# Altium schematic symbol library LOGIC.SchLib: 28 symbols
Pins are listed as number, name and electrical type; pins without a type are passive.

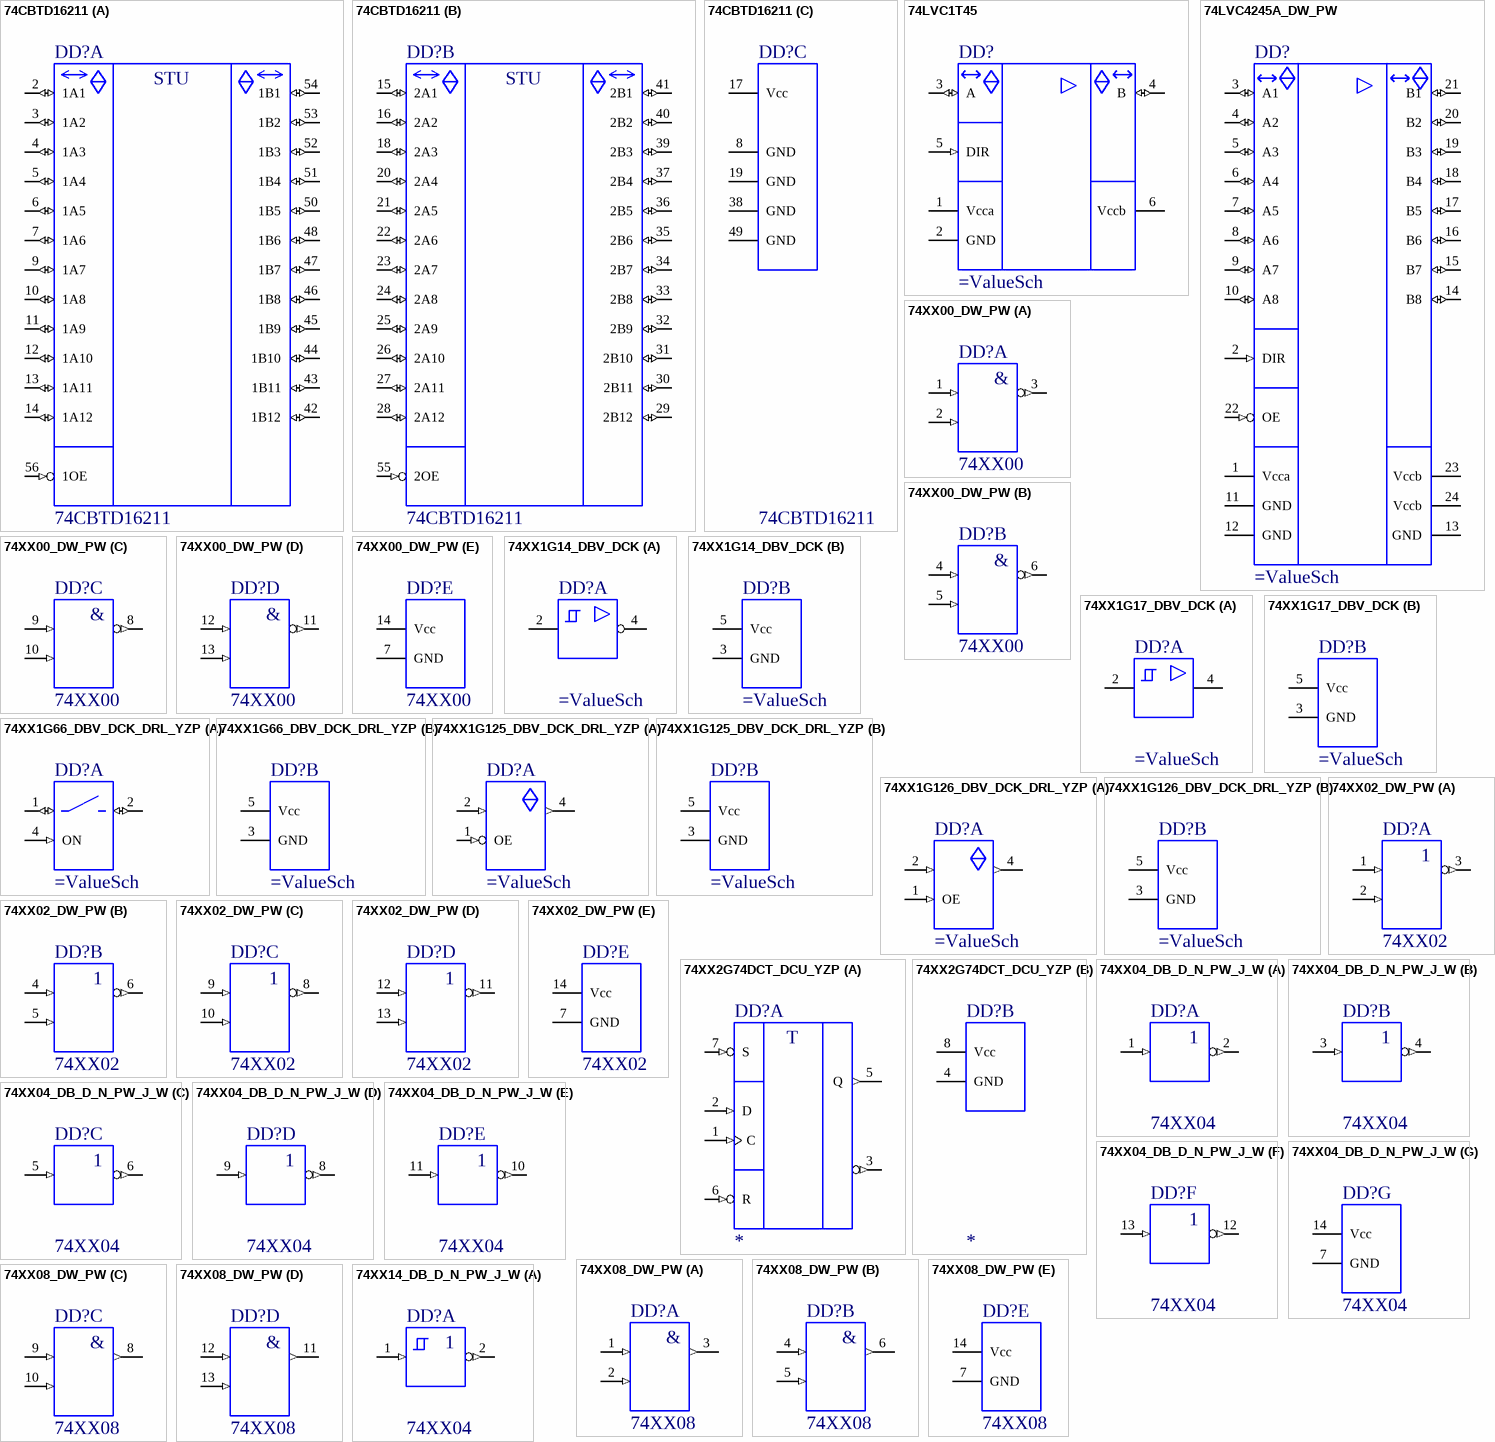
[diagram p0: symbols 74CBTD16211 to 74XX14_DB_D_N_PW_J_W]

## 74CBTD16211
designator DD?
24-Bit FET Bus switch with level shifting; ValueSch: 74CBTD16211
part A pins: 2 1A1 (io) "I/O port", 3 1A2 (io) "I/O port", 4 1A3 (io) "I/O port", 5 1A4 (io) "I/O port", 6 1A5 (io) "I/O port", 7 1A6 (io) "I/O port", 9 1A7 (io) "I/O port", 10 1A8 (io) "I/O port", 11 1A9 (io) "I/O port", 12 1A10 (io) "I/O port", 13 1A11 (io) "I/O port", 14 1A12 (io) "I/O port", 42 1B12 (io) "I/O port", 43 1B11 (io) "I/O port", 44 1B10 (io) "I/O port", 45 1B9 (io) "I/O port", 46 1B8 (io) "I/O port", 47 1B7 (io) "I/O port", 48 1B6 (io) "I/O port", 50 1B5 (io) "I/O port", 51 1B4 (io) "I/O port", 52 1B3 (io) "I/O port", 53 1B2 (io) "I/O port", 54 1B1 (io) "I/O port", 56 1OE (in) "Output enable 1"
part B pins: 15 2A1 (io) "I/O port", 16 2A2 (io) "I/O port", 18 2A3 (io) "I/O port", 20 2A4 (io) "I/O port", 21 2A5 (io) "I/O port", 22 2A6 (io) "I/O port", 23 2A7 (io) "I/O port", 24 2A8 (io) "I/O port", 25 2A9 (io) "I/O port", 26 2A10 (io) "I/O port", 27 2A11 (io) "I/O port", 28 2A12 (io) "I/O port", 29 2B12 (io) "I/O port", 30 2B11 (io) "I/O port", 31 2B10 (io) "I/O port", 32 2B9 (io) "I/O port", 33 2B8 (io) "I/O port", 34 2B7 (io) "I/O port", 35 2B6 (io) "I/O port", 36 2B5 (io) "I/O port", 37 2B4 (io) "I/O port", 39 2B3 (io) "I/O port", 40 2B2 (io) "I/O port", 41 2B1 (io) "I/O port", 55 2OE (in) "Output enable 2"
part C pins: 1 NC hidden "No internal  connection", 8 GND (power), 17 Vcc (power) "Power supply", 19 GND (power), 38 GND (power), 49 GND (power)
part A text: STU
part B text: STU

## 74LVC1T45
designator DD?
Преобразователь уровня двунаправленный 1-bit
pins: 1 Vcca (power), 2 GND (power), 3 A (io), 4 B (io), 5 DIR (in), 6 Vccb (power)

## 74LVC4245A_DW_PW
designator DD?
Преобразователь уровня двунаправленный 8-bit
pins: 1 Vcca (power), 2 DIR (in), 3 A1 (io), 4 A2 (io), 5 A3 (io), 6 A4 (io), 7 A5 (io), 8 A6 (io), 9 A7 (io), 10 A8 (io), 11 GND (power), 12 GND (power), 13 GND (power), 14 B8 (io), 15 B7 (io), 16 B6 (io), 17 B5 (io), 18 B4 (io), 19 B3 (io), 20 B2 (io), 21 B1 (io), 22 OE (in), 23 Vccb (power), 24 Vccb (power)

## 74XX00_DW_PW
designator DD?, comment 74XX00
4 логических элемента 2И-НЕ; ValueSch: 74XX00
part A pins: 1 A1 (in), 2 B1 (in), 3 Y1 (out)
part B pins: 4 A2 (in), 5 B3 (in), 6 Y2 (out)
part C pins: 8 Y3 (out), 9 A3 (in), 10 B3 (in)
part D pins: 11 Y4 (out), 12 A4 (in), 13 B4 (in)
part E pins: 7 GND (power), 14 Vcc (power)
part A text: &
part B text: &
part C text: &
part D text: &

## 74XX1G14_DBV_DCK
designator DD?
1-gate NOT with Schmitt trigger
part A pins: 2 A, 4 Y
part B pins: 3 GND, 5 Vcc

## 74XX1G17_DBV_DCK
designator DD?
1-gate Schmitt trigger buffer
part A pins: 2 A, 4 Y
part B pins: 3 GND, 5 Vcc

## 74XX1G66_DBV_DCK_DRL_YZP
designator DD?
SINGLE BILATERAL ANALOG SWITCH
part A pins: 1 A (io), 2 B (io), 4 ON (in)
part B pins: 3 GND (power), 5 Vcc (power)

## 74XX1G125_DBV_DCK_DRL_YZP
designator DD?
SINGLE BUS BUFFER GATE  WITH 3-STATE OUTPUT
part A pins: 1 OE (in) "output enable", 2 A1 (in) "data input", 4 Y (out) "data output"
part B pins: 3 GND (power), 5 Vcc (power)

## 74XX1G126_DBV_DCK_DRL_YZP
designator DD?
SINGLE BUS BUFFER GATE  WITH 3-STATE OUTPUT
part A pins: 1 OE (in) "output enable", 2 A1 (in) "data input", 4 Y (out) "data output"
part B pins: 3 GND (power), 5 Vcc (power)

## 74XX02_DW_PW
designator DD?, comment 74XX02
4 логических элемента 2ИЛИ-НЕ; ValueSch: 74XX02
part A pins: 1 A1 (in), 2 B1 (in), 3 Y1 (out)
part B pins: 4 A2 (in), 5 B2 (in), 6 Y2 (out)
part C pins: 8 Y3 (out), 9 A3 (in), 10 B3 (in)
part D pins: 11 Y4 (out), 12 A4 (in), 13 B4 (in)
part E pins: 7 GND (power), 14 Vcc (power)

## 74XX2G74DCT_DCU_YZP
designator DD?
1 Синхронный D-триггер с асинхронной установкой и сбросом; ValueSch: *
part A pins: 1 C (in) "CLK", 2 D (in) "Data input", 3 Qn (out) "Data input", 5 Q (out) "Out", 6 R (in) "Reset", 7 S (in) "Set"
part B pins: 4 GND (power), 8 Vcc (power)
part A text: T

## 74XX04_DB_D_N_PW_J_W
designator DD?, comment 74XX04
Шесть элементов НЕ; ValueSch: 74XX04
part A pins: 1 A1 (in), 2 Y1 (out)
part B pins: 3 A2 (in), 4 Y3 (out)
part C pins: 5 A3 (in), 6 Y3 (out)
part D pins: 8 Y4 (out), 9 A4 (in)
part E pins: 10 Y5 (out), 11 A5 (in)
part F pins: 12 Y6 (out), 13 A6 (in)
part G pins: 7 GND (power), 14 Vcc (power)

## 74XX08_DW_PW
designator DD?, comment 74XX08
4 логических элемента 2И; ValueSch: 74XX08
part A pins: 1 A1 (in), 2 B1 (in), 3 Y1 (out)
part B pins: 4 A2 (in), 5 B2 (in), 6 Y2 (out)
part C pins: 8 Y3 (out), 9 A3 (in), 10 B3 (in)
part D pins: 11 Y4 (out), 12 A4 (in), 13 B4 (in)
part E pins: 7 GND (power), 14 Vcc (power)
part A text: &
part B text: &
part C text: &
part D text: &

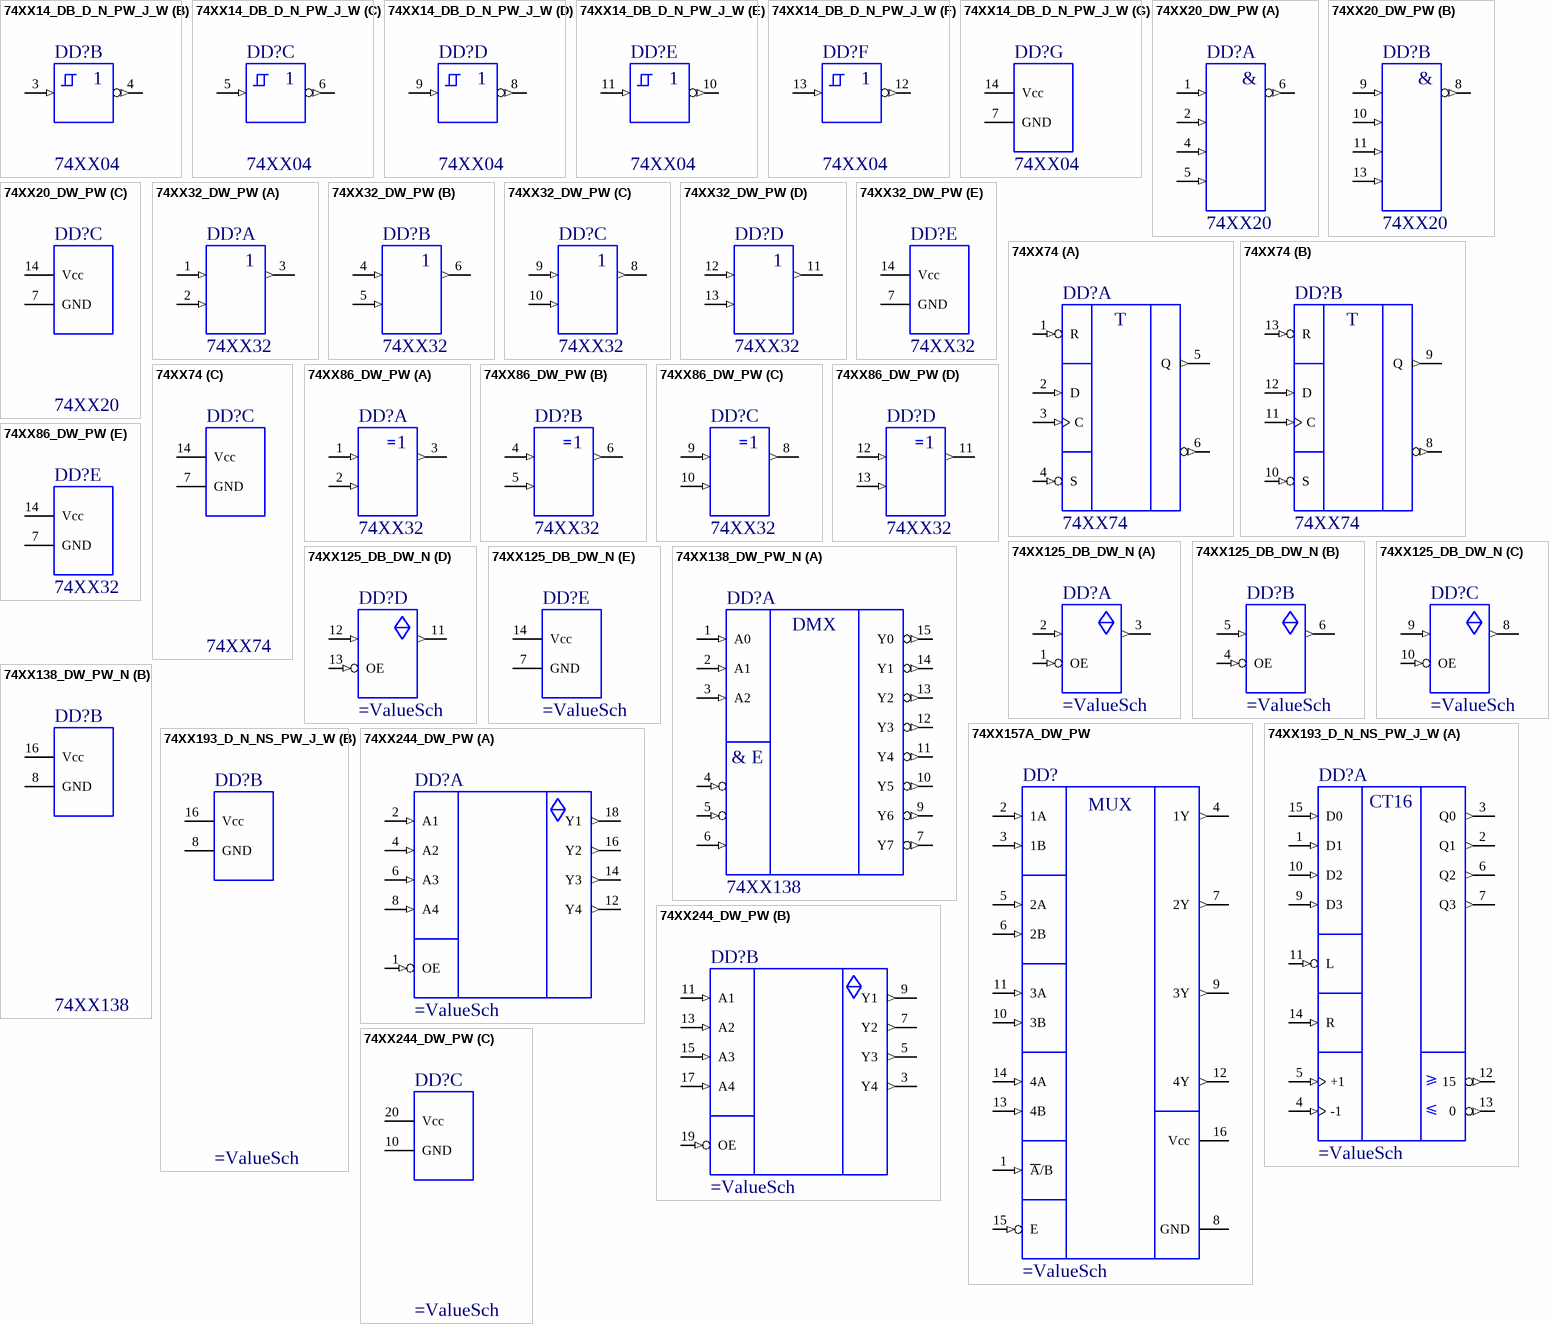
[diagram p1: symbols 74XX14_DB_D_N_PW_J_W to 74XX244_DW_PW]

## 74XX14_DB_D_N_PW_J_W
designator DD?, comment 74XX04
Шесть элементов НЕ; ValueSch: 74XX04
part A pins: 1 A1 (in), 2 Y1 (out)
part B pins: 3 A2 (in), 4 Y3 (out)
part C pins: 5 A3 (in), 6 Y3 (out)
part D pins: 8 Y4 (out), 9 A4 (in)
part E pins: 10 Y5 (out), 11 A5 (in)
part F pins: 12 Y6 (out), 13 A6 (in)
part G pins: 7 GND (power), 14 Vcc (power)

## 74XX20_DW_PW
designator DD?, comment 74XX20
2 логических элемента 4И-НЕ; ValueSch: 74XX20
part A pins: 1 A1 (in), 2 B1 (in), 4 C1 (in), 5 D1 (in), 6 Y1 (out)
part B pins: 8 Y2 (out), 9 A2 (in), 10 B2 (in), 11 C2 (in), 13 D2 (in)
part C pins: 7 GND (power), 14 Vcc (power)
part A text: &
part B text: &

## 74XX32_DW_PW
designator DD?, comment 74XX32
4 логических элемента 2ИЛИ; ValueSch: 74XX32
part A pins: 1 A1 (in), 2 B1 (in), 3 Y1 (out)
part B pins: 4 A2 (in), 5 B2 (in), 6 Y2 (out)
part C pins: 8 Y3 (out), 9 A3 (in), 10 B3 (in)
part D pins: 11 Y4 (out), 12 A4 (in), 13 B4 (in)
part E pins: 7 GND (power), 14 Vcc (power)

## 74XX74
designator DD?
ValueSch: 74XX74
part A pins: 1 R (in) "Asynchronic reset input", 2 D (in) "Data input", 3 C (in) "CLK", 4 S (in) "Asynchronic set input", 5 Q (out), 6 Q (out)
part B pins: 8 Q (out), 9 Q (out), 10 S (in) "Asynchronic set input", 11 C (in) "CLK", 12 D (in) "Data input", 13 R (in) "Asynchronic reset input"
part C pins: 7 GND (power), 14 Vcc (power)
part A text: T
part B text: T

## 74XX86_DW_PW
designator DD?, comment 74XX32
4 логических элемента исключающее ИЛИ; ValueSch: 74XX32
part A pins: 1 A1 (in), 2 B1 (in), 3 Y1 (out)
part B pins: 4 A2 (in), 5 B2 (in), 6 Y2 (out)
part C pins: 8 Y3 (out), 9 A3 (in), 10 B3 (in)
part D pins: 11 Y4 (out), 12 A4 (in), 13 B4 (in)
part E pins: 7 GND (power), 14 Vcc (power)

## 74XX125_DB_DW_N
designator DD?
Quadruple bus buffer gates with 3-state outputs
part A pins: 1 OE (in) "output enable", 2 A1 (in) "data input", 3 Y1 (out) "data output"
part B pins: 4 OE (in) "output enable", 5 A2 (in) "data input", 6 Y2 (out) "data output"
part C pins: 8 Y3 (out) "data output", 9 A3 (in) "data input", 10 OE (in) "output enable"
part D pins: 11 Y4 (out) "data output", 12 A4 (in) "data input", 13 OE (in) "output enable"
part E pins: 7 GND (power), 14 Vcc (power)

## 74XX138_DW_PW_N
designator DD?, comment 74XX138
Дешифратор демултиплексор 3 на 8; ValueSch: 74XX138
part A pins: 1 A0 (in), 2 A1 (in), 3 A2 (in), 4 E3 (in), 5 E2 (in), 6 E1 (in), 7 Y7 (out), 9 Y6 (out), 10 Y5 (out), 11 Y4 (out), 12 Y3 (out), 13 Y2 (out), 14 Y1 (out), 15 Y0 (out)
part B pins: 8 GND (power), 16 Vcc (power)
part A text: DMX; & E

## 74XX157A_DW_PW
designator DD?
Мультиплексор 4 x 2>1 74xx157
pins: 1 ~{A}/B (in), 2 1A (in), 3 1B (in), 4 1Y (out), 5 2A (in), 6 2B (in), 7 2Y (out), 8 GND (power), 9 3Y (out), 10 3B (in), 11 3A (in), 12 4Y (out), 13 4B (in), 14 4A (in), 15 E (in), 16 Vcc (power)
1 alternate drawing of the same symbol
text: MUX

## 74XX193_D_N_NS_PW_J_W
designator DD?
part A pins: 1 D1 (in) "Data(1) input", 2 Q1 (out) "Q1 output", 3 Q0 (out) "Q0 output", 4 -1 (in) "DOWN count clock", 5 +1 (in) "UP count clock", 6 Q2 (out) "Q2 output", 7 Q3 (out) "Q3 output", 9 D3 (in) "Data(3) input", 10 D2 (in) "Data(2) input", 11 L (in) "Load", 12 15 (out) ">= 15 output", 13 0 (out) "=< 0 output", 14 R (in) "Reset", 15 D0 (in) "Data(0) input"
part B pins: 8 GND (power), 16 Vcc (power)
part A text: CT16

## 74XX244_DW_PW
designator DD?
Два 4-х канальных шинных формирователя
part A pins: 1 OE (in), 2 A1 (in), 4 A2 (in), 6 A3 (in), 8 A4 (in), 12 Y4 (out), 14 Y3 (out), 16 Y2 (out), 18 Y1 (out)
part B pins: 3 Y4 (out), 5 Y3 (out), 7 Y2 (out), 9 Y1 (out), 11 A1 (in), 13 A2 (in), 15 A3 (in), 17 A4 (in), 19 OE (in)
part C pins: 10 GND (power), 20 Vcc (power)

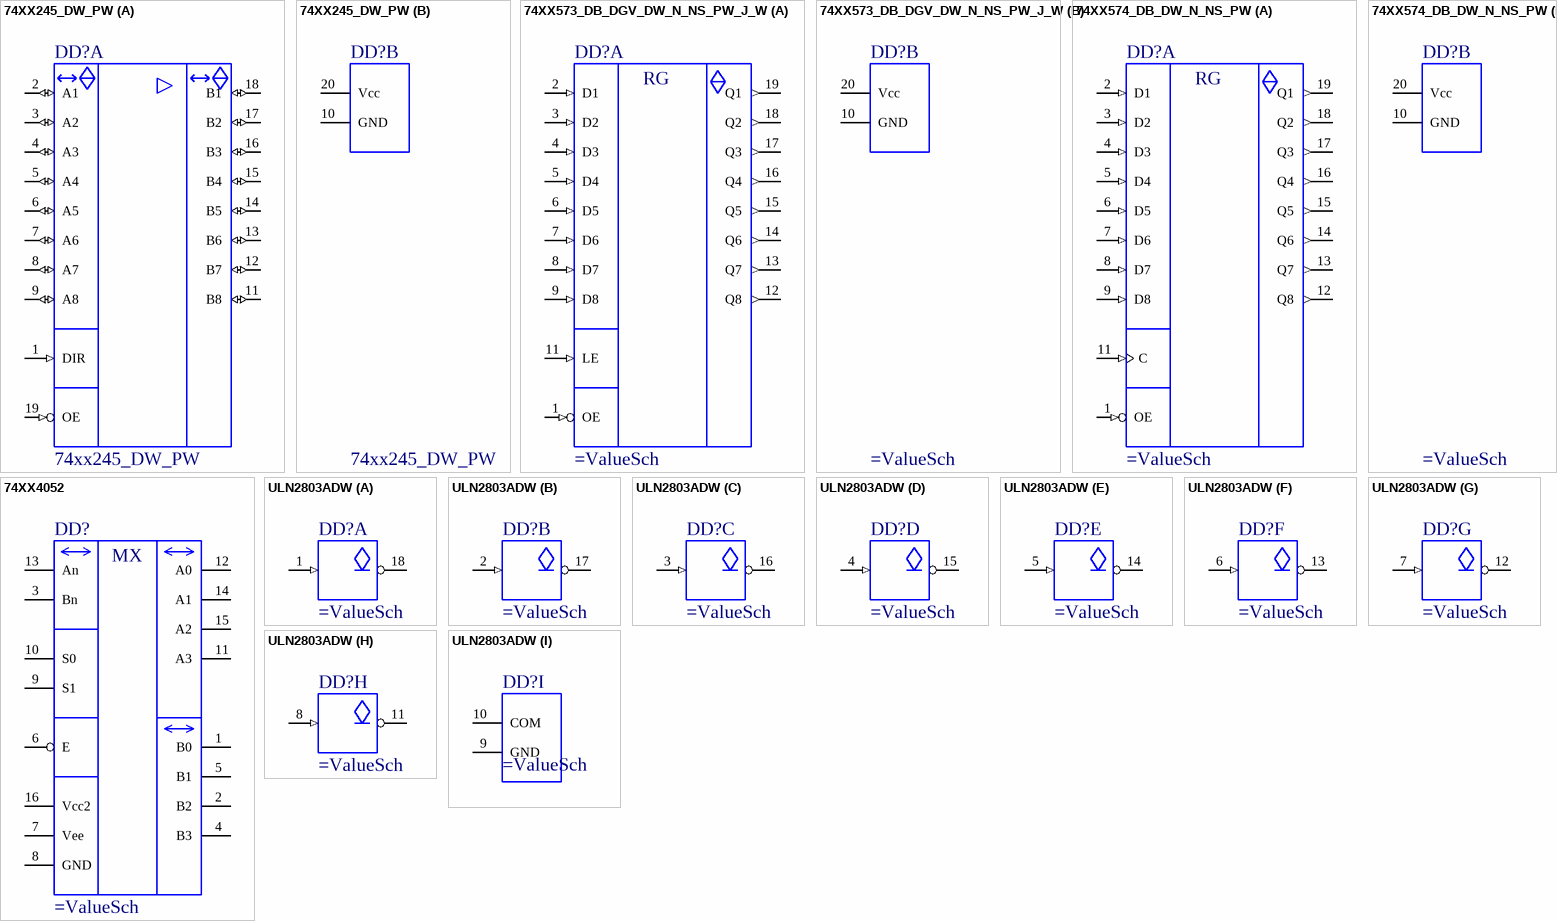
[diagram p2: symbols 74XX245_DW_PW to ULN2803ADW]

## 74XX245_DW_PW
designator DD?, comment 74xx245_DW_PW
8-ми канальный двунаправленный шиный формарователь с 3-мя состояниями на выходе; ValueSch: 74xx245_DW_PW
part A pins: 1 DIR (in) "Direction", 2 A1 (io), 3 A2 (io), 4 A3 (io), 5 A4 (io), 6 A5 (io), 7 A6 (io), 8 A7 (io), 9 A8 (io), 11 B8 (io), 12 B7 (io), 13 B6 (io), 14 B5 (io), 15 B4 (io), 16 B3 (io), 17 B2 (io), 18 B1 (io), 19 OE (in)
part B pins: 10 GND (power), 20 Vcc (power)

## 74XX573_DB_DGV_DW_N_NS_PW_J_W
designator DD?
8xD-Type Latches with 3-state outputs
part A pins: 1 OE (in) "Output enable", 2 D1 (in) "Data input", 3 D2 (in) "Data input", 4 D3 (in) "Data input", 5 D4 (in) "Data input", 6 D5 (in) "Data input", 7 D6 (in) "Data input", 8 D7 (in) "Data input", 9 D8 (in) "Data input", 11 LE (in) "Load enable", 12 Q8 (out) "Data output", 13 Q7 (out) "Data output", 14 Q6 (out) "Data output", 15 Q5 (out) "Data output", 16 Q4 (out) "Data output", 17 Q3 (out) "Data output", 18 Q2 (out) "Data output", 19 Q1 (out) "Data output"
part B pins: 10 GND (power), 20 Vcc (power)
part A text: RG

## 74XX574_DB_DW_N_NS_PW
designator DD?
8xD-Type edge-triggered Flip-Flops with 3-state outputs
part A pins: 1 OE (in) "Output enable", 2 D1 (in) "Data input", 3 D2 (in) "Data input", 4 D3 (in) "Data input", 5 D4 (in) "Data input", 6 D5 (in) "Data input", 7 D6 (in) "Data input", 8 D7 (in) "Data input", 9 D8 (in) "Data input", 11 C (in), 12 Q8 (out) "Data output", 13 Q7 (out) "Data output", 14 Q6 (out) "Data output", 15 Q5 (out) "Data output", 16 Q4 (out) "Data output", 17 Q3 (out) "Data output", 18 Q2 (out) "Data output", 19 Q1 (out) "Data output"
part B pins: 10 GND (power), 20 Vcc (power)
part A text: RG

## 74XX4052
designator DD?
pins: 1 B0, 2 B2, 3 Bn, 4 B3, 5 B1, 6 E, 7 Vee, 8 GND, 9 S1, 10 S0, 11 A3, 12 A0, 13 An, 14 A1, 15 A2, 16 Vcc2
text: MX

## ULN2803ADW
designator DD?
ULN2803ADW
part A pins: 1 1B (in), 18 1C (oc)
part B pins: 2 2B (in), 17 2C (oc)
part C pins: 3 3B (in), 16 3C (oc)
part D pins: 4 4B (in), 15 4C (oc)
part E pins: 5 5B (in), 14 5C (oc)
part F pins: 6 6B (in), 13 6C (oc)
part G pins: 7 7B (in), 12 7C (oc)
part H pins: 8 8B (in), 11 8C (oc)
part I pins: 9 GND (power), 10 COM (power)